# Altium schematic symbol library DCDC_Switcher.SchLib: 9 symbols
Pins are listed as number, name and electrical type; pins without a type are passive.

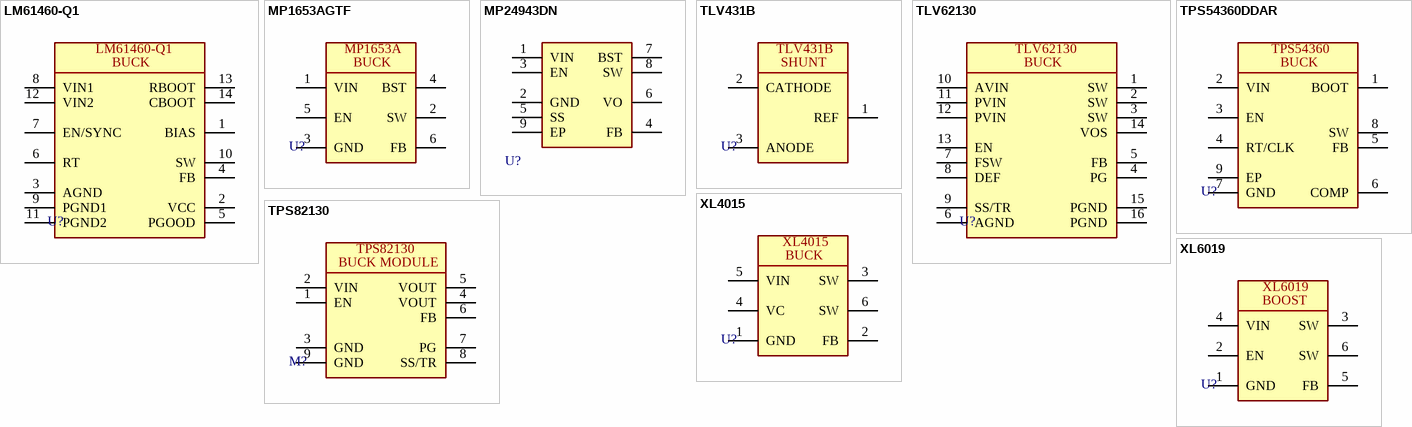
[diagram p0: symbols LM61460-Q1 to XL6019]

## LM61460-Q1
designator U?
LM61460-Q1 Automotive 3-V to 36-V, 6-A, Low EMI Synchronous Step-Down / Converter; Manufacturer 1: Texas Instruments; Supplier Part Number 1: *; Manufacturer Part Number 1: *; Package: VQFN-14-HR(3.5x4); Supplier 1: *
footprint LM61460-Q1 (LM61460-Q1 Automotive 3-V to 36-V, 6-A, Low EMI Synchronous Step-Down / Converter)
pins: 1 BIAS, 2 VCC, 3 AGND, 4 FB, 5 PGOOD, 6 RT, 7 EN/SYNC, 8 VIN1 (power), 9 PGND1, 10 SW, 11 PGND2, 12 VIN2 (power), 13 RBOOT, 14 CBOOT
text: BUCK

## MP1653AGTF
designator U?
17V, 3A, 1.2MHZ, 0.6V VREF, FCCM; Manufacturer 1: Monolithic Power Systems Inc.; Value: *; Manufacturer Part Number 1: *
footprint MP1653AGTF (Footprint not found)
pins: 1 VIN, 2 SW, 3 GND, 4 BST, 5 EN, 6 FB
text: MP1653A; BUCK

## MP24943DN
designator U?
IC REG BUCK ADJ 3A 8SOIC; Manufacturer 1: Monolithic Power Systems Inc.; Value: *; Manufacturer Part Number 1: *
footprint MP24943DN (IC REG BUCK ADJ 3A 8SOIC)
pins: 1 VIN, 2 GND, 3 EN, 4 FB, 5 SS, 6 VO, 7 BST, 8 SW, 9 EP

## TLV431B
designator U?
1.24V~6V 1.24V~6V 15mA 80uA 80uA Adjustable Parallel ±0.5% SOT-23-3 Voltage Reference ROHS; Manufacturer 1: Texas Instruments; Value: *; Manufacturer Part Number 1: *; Supplier 1: JLCPCB; Supplier Part Number 1: *; Package: SOT-23-3
footprint TLV431B (1.24V~6V 1.24V~6V 15mA 80uA 80uA Adjustable Parallel ±0.5% SOT-23-3 Voltage Reference ROHS)
pins: 1 REF, 2 CATHODE, 3 ANODE
text: SHUNT

## TLV62130
designator U?
TLV62130x 3-V to 17-V 3-A Step-Down Converter In 3x3 QFN Package; Package: *; Manufacturer 1: *; Manufacturer Part Number 1: *; Supplier 1: *; Supplier Part Number 1: *
footprint TLV62130 (TLV62130x 3-V to 17-V 3-A Step-Down Converter In 3x3 QFN Package)
pins: 1 SW, 2 SW, 3 SW, 4 PG, 5 FB, 6 AGND, 7 FSW, 8 DEF, 9 SS/TR, 10 AVIN, 11 PVIN, 12 PVIN, 13 EN, 14 VOS, 15 PGND, 16 PGND
text: BUCK

## TPS54360DDAR
designator U?
Buck, Split Rail Switching Regulator IC Positive Adjustable 0.8V 1 Output 3.5A 8-PowerSOIC (0.154", 3.90mm Width); Manufacturer 1: Texas Instruments; Manufacturer Part Number 1: TPS54360DDAR; Value: *
footprint TPS54360DDAR
pins: 1 BOOT, 2 VIN, 3 EN, 4 RT/CLK, 5 FB, 6 COMP, 7 GND, 8 SW, 9 EP
text: TPS54360; BUCK

## TPS82130
designator M?
1.5mm 2.8mm 20uA 2MHz 3A 3V~17V 3mm 900mV~6V Buck Over Temperature Protection ±1.5% USIP-8 DC-DC Power Modules ROHS; Manufacturer 1: Texas Instruments; Value: *; Manufacturer Part Number 1: *; Supplier 1: JLCPCB; Supplier Part Number 1: *; Package: USIP-8
footprint TPS82130 (1.5mm 2.8mm 20uA 2MHz 3A 3V~17V 3mm 900mV~6V Buck Over Temperature Protection ±1.5% USIP-8 DC-DC Power Modules ROHS)
pins: 1 EN, 2 VIN, 3 GND, 4 VOUT, 5 VOUT, 6 FB, 7 PG, 8 SS/TR, 9 GND
text: BUCK MODULE

## XL4015
designator U?
5A 180KHz 36V Buck DC to DC Converter; Manufacturer 1: XLSemi; Manufacturer Part Number 1: XL4015E1; Value: *
footprint XL4015 (5A 180KHz 36V Buck DC to DC Converter)
pins: 1 GND, 2 FB, 3 SW, 4 VC, 5 VIN, 6 SW
text: BUCK

## XL6019
designator U?
5A 180KHz 32V Boost DC to DC Converter; Manufacturer 1: XLSemi; Manufacturer Part Number 1: XL6019; Value: *; Supplier 1: *; Supplier Part Number 1: *
footprint DPAK171P1524X483-6M (D2-PAK, 6-Pads, Body 7.93x8.63mm (max), IPC Low Density)
pins: 1 GND, 2 EN, 3 SW, 4 VIN, 5 FB, 6 SW
text: BOOST